# EAGLE library part SSQ-106-03 (library KVB-connectors)
ARDUINO SHIELD CONN RCPT .100" 6POS SNGL GOLD
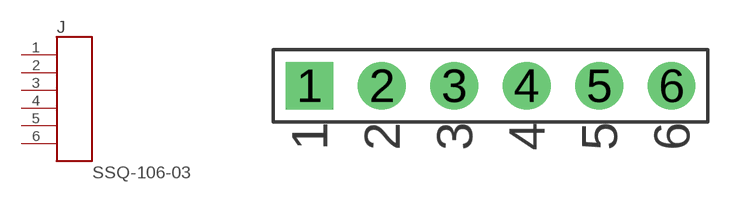
[diagram p23: symbol with the pads of SSQ-106-03; footprint SSQ-106-03]

Designator prefix J

## SSQ-106-03  [SSQ-106-03]
1  P$1
2  P$2
3  P$3
4  P$4
5  P$5
6  P$6

## Footprint SSQ-106-03 (pad centres in mm)
drill 1.016 pad 1.676 square: 1 -6.35,0
drill 1.016 pad 1.676: 2 -3.81,0; 3 -1.27,0; 4 1.27,0; 5 3.81,0; 6 6.35,0